# EAGLE library part ACPL-021L-060E (library ACPL-021L-060E)
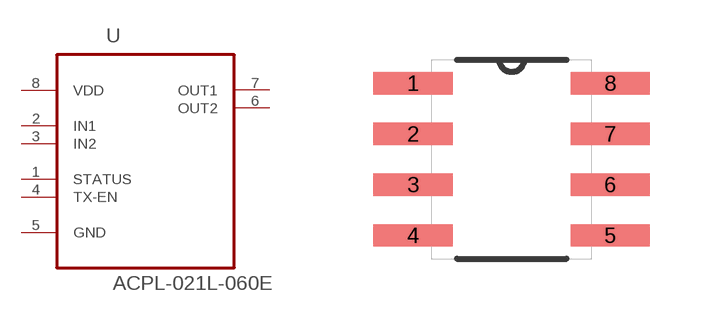
[diagram p0: symbol with the pads of SOIC127P600X175-8N; footprint SOIC127P600X175-8N]

Designator prefix U

## ACPL-021L-060E (Check_prices: https://www.snapeda.com/parts/ACPL-021L-060E/Broadcom/view-part/?ref=eda; Description: Logic Output Optoisolator 5MBd Push-Pull, Totem Pole 3750Vrms 1 Channel 25kV/µs CMTI 8-SO Tall; DigiKey_Part_Number: ACPL-021L-060E-ND; MF: Broadcom; MP: ACPL-021L-060E; Package: SO-8 Avago; SnapEDA_Link: https://www.snapeda.com/parts/ACPL-021L-060E/Broadcom/view-part/?ref=snap)  [SOIC127P600X175-8N]
1  STATUS  out
2  IN1  in
3  IN2  in
4  TX-EN  in
5  GND  pas
6  OUT2  out
7  OUT1  out
8  VDD  pwr

## Footprint SOIC127P600X175-8N (pad centres in mm)
smd 1.981 x 0.559: 1 -2.464,1.905; 2 -2.464,0.635; 3 -2.464,-0.635; 4 -2.464,-1.905; 5 2.464,-1.905; 6 2.464,-0.635; 7 2.464,0.635; 8 2.464,1.905